# Altium schematic symbol library HM-TRP-433S.SchLib: 1 symbol
Pins are listed as number, name and electrical type; pins without a type are passive.

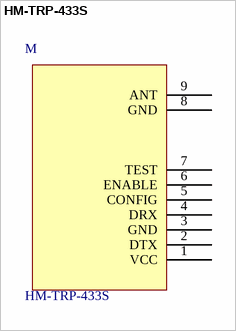
[diagram p0: symbol HM-TRP-433S]

## HM-TRP-433S
designator M  value HM-TRP-433S  (hidden comment: *)
Manufacturer: HOPERF; Manufacturer Code: HM-TRP-433S; Unit Price: 8 €
footprint HM-TRP-433S (Footprint not found)
pins: 1 VCC, 2 DTX, 3 GND, 4 DRX, 5 CONFIG, 6 ENABLE, 7 TEST, 8 GND, 9 ANT